# Altium schematic symbol library Capacitor_1206.SchLib: 3 symbols
Pins are listed as number, name and electrical type; pins without a type are passive.

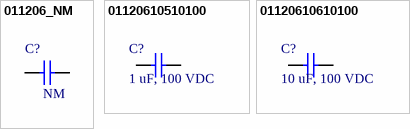
[diagram p0: symbols 011206_NM to 01120610610100]

## 011206_NM
designator C?, comment NM
CAP, size 1206, NM; Packaging: Tape and Reel; Capacitance: N/A; Supplier 1 URL: N/A; Supplier 2 URL: N/A; Supplier 3 URL: N/A; Tolerance: N/A; Voltage Rating DC: N/A; Value: NM; Supplier 1: Mouser; Supplier 1 Part Number: N/A; Supplier 2: Digi-Key; Supplier 2 Part Number: N/A; Supplier 3: thegioiic; Supplier 3 Part Number: N/A; Manufacturer: N/A; Manufacturer Part Number: N/A; ComponentLink1Description: Datasheet; ComponentLink1URL: N/A; Mount: SMD/SMT; Operating Temperature Max: + 85 C; Operating Temperature Min: - 40 C; Package / Case: 1206; LCSC Part #: N/A
footprint CAP_1206 (Chip Capacitor, 2-Leads, Body 3.20x1.60mm, IPC Medium Density)
pins: 1, 2

## 01120610510100
designator C?, comment 1 uF, 100 VDC
CAP, size 1206, 1 uF, 100 VDC, 10%; Manufacturer: Samsung Electro-Mechanics; Manufacturer Part Number: CL31B105KCHNNNE; Capacitance: 1 uF; Tolerance: +/-10%; Value: 1 uF; Voltage Rating DC: 100 VDC; ComponentLink1Description: Datasheet; ComponentLink1URL: https://www.lcsc.com/datasheet/C13832.pdf?spm=wm.sxq.inf.ggs___wm.fly.bg.0.xh&lcsc_vid=FQMKBABWTgUIBQJQFFEMBgBUFFIPVlNeFQReAQVWFFgxVlNeQlJfUFNSQ1JeUzsOAxUeFF5JWBYZEEoKFBINSQcJGk4NBhADEA4cHktXRlVcSQwSGg0%3D; LCSC Part #: C13832; Mount: SMD/SMT; Operating Temperature Max: + 125 C; Operating Temperature Min: - 55 C; Package / Case: 1206; Packaging: Tape and Reel; Supplier 1: Mouser; Supplier 1 Part Number: 187-CL31B105KCHNNNE; Supplier 1 URL: https://www.mouser.vn/en/ProductDetail/Samsung-Electro-Mechanics/CL31B105KCHNNNE?qs=349EhDEZ59qH1i3RhF2lug%3D%3D; Supplier 2: Digi-Key; Supplier 2 Part Number: 1276-1838-2-ND; Supplier 2 URL: https://www.digikey.com/en/products/detail/samsung-electro-mechanics/cl31b105kchnnne/3887496; Supplier 3: thegioiic; Supplier 3 Part Number: N/A; Supplier 3 URL: N/A
footprint CAP_1206 (Chip Capacitor, 2-Leads, Body 3.20x1.60mm, IPC Medium Density)
pins: 1, 2

## 01120610610100
designator C?, comment 10 uF, 100 VDC
CAP, size 1206, 10 uF, 100 VDC, 10%; Manufacturer: muRata; Manufacturer Part Number: GRM32EC72A106KE05L; Capacitance: 10 uF; Tolerance: +/-10%; Value: 10 uF; Voltage Rating DC: 100 VDC; ComponentLink1Description: Datasheet; ComponentLink1URL: https://www.lcsc.com/datasheet/C576517.pdf?spm=wm.sxq.inf.ggs___wm.fly.bg.2.xh&lcsc_vid=FQMKBABWTgUIBQJQFFEMBgBUFFIPVlNeFQReAQVWFFgxVlNeQlJfUFNSQ1JeUzsOAxUeFF5JWBYZEEoKFBINSQcJGk4NBhADEA4cHktXRlVcSQwSGg0%3D; LCSC Part #: C576517; Mount: SMD/SMT; Operating Temperature Max: + 125 C; Operating Temperature Min: - 55 C; Package / Case: 1206; Packaging: Tape and Reel; Supplier 1: Mouser; Supplier 1 Part Number: 81-GRM32EC72A106KE05; Supplier 1 URL: https://www.mouser.vn/en/ProductDetail/Murata-Electronics/GRM32EC72A106KE05L?qs=5aG0NVq1C4yOgpL0%2FICNsw%3D%3D; Supplier 2: Digi-Key; Supplier 2 Part Number: 490-16266-2-ND; Supplier 2 URL: https://www.digikey.com/en/products/detail/murata-electronics/grm32ec72a106ke05l/7319245; Supplier 3: thegioiic; Supplier 3 Part Number: N/A; Supplier 3 URL: N/A
footprint CAP_1206 (Chip Capacitor, 2-Leads, Body 3.20x1.60mm, IPC Medium Density)
pins: 1, 2